# Altium schematic symbol library RC0805.SchLib: 789 symbols (part 1 of 11)
Pins are listed as number, name and electrical type; pins without a type are passive.

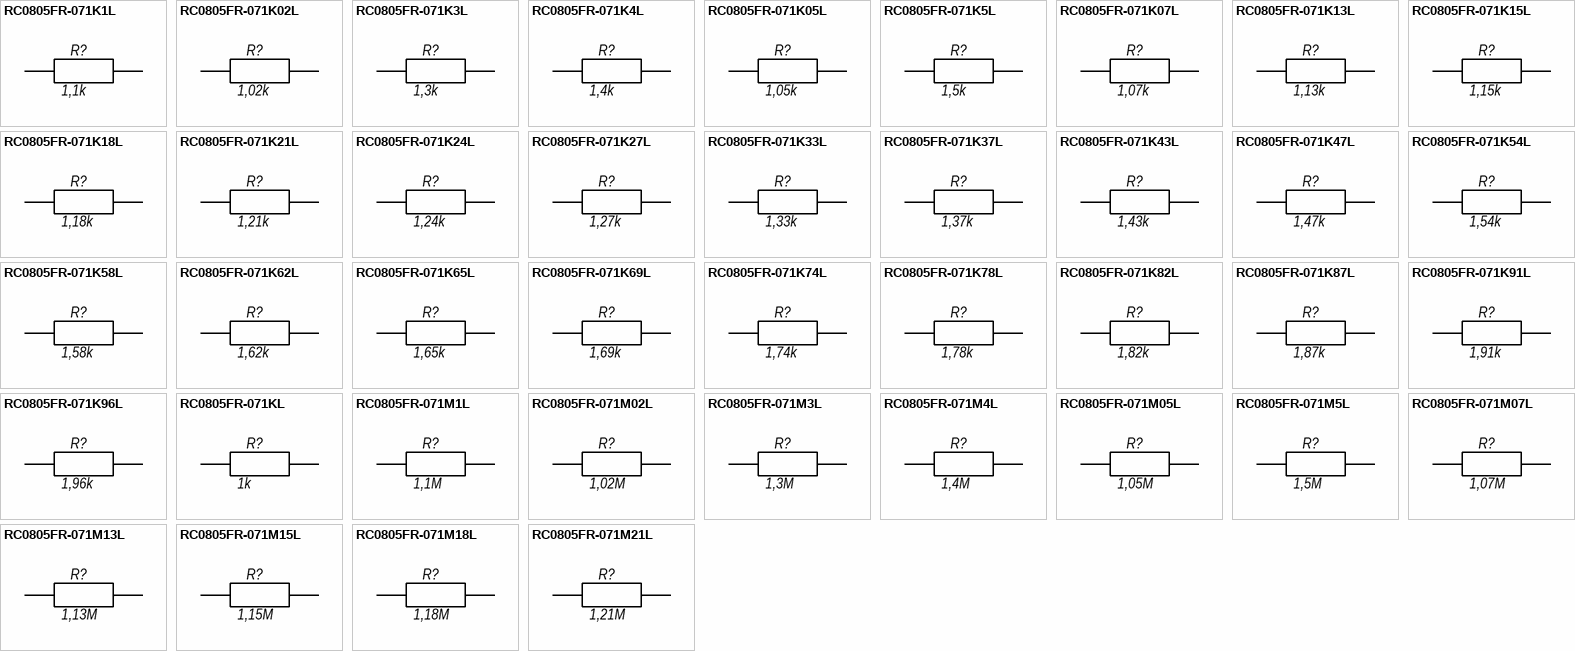
[diagram p0: symbols RC0805FR-071K1L to RC0805FR-071M21L]

## RC0805FR-071K1L
designator R?, comment 1,1k
RC0805FR-071K1L 0805 1.1 kOhm ±1% 1/8W 0805 SMD -55C...+155C; Manufacturer: Yageo; BOM2: 1,1 кОм ±1%, 1/8 Вт, SMD 0805, RC0805FR-071K1L; ValueBOM: RC0805FR-071K1L   Yageo                            (1,1 кОм ±1%, 1/8 Вт, SMD 0805, RC0805FR-071K1L); Value: 1,1k; Part Number: RC0805FR-071K1L; Package: 0805; BOM1: 1.1 kOhm ±1% 1/8W 0805 SMD
footprint RESC_0805_2012N (Chip Resistor, Body 2.0x1.3mm, IPC Medium Density)
footprint RESC_0805_2012M (Chip Resistor, Body 2.0x1.3mm, IPC Low Density)
footprint RESC_0805_2012L (Chip Resistor, Body 2.0x1.3mm, IPC High Density)
pins: 1, 2

## RC0805FR-071K02L
designator R?, comment 1,02k
RC0805FR-071K02L 0805 1.02 kOhm ±1% 1/8W 0805 SMD -55C...+155C; Manufacturer: Yageo; BOM2: 1,02 кОм ±1%, 1/8 Вт, SMD 0805, RC0805FR-071K02L; ValueBOM: RC0805FR-071K02L   Yageo                            (1,02 кОм ±1%, 1/8 Вт, SMD 0805, RC0805FR-071K02L); Value: 1,02k; Part Number: RC0805FR-071K02L; Package: 0805; BOM1: 1.02 kOhm ±1% 1/8W 0805 SMD
footprint RESC_0805_2012N (Chip Resistor, Body 2.0x1.3mm, IPC Medium Density)
footprint RESC_0805_2012M (Chip Resistor, Body 2.0x1.3mm, IPC Low Density)
footprint RESC_0805_2012L (Chip Resistor, Body 2.0x1.3mm, IPC High Density)
pins: 1, 2

## RC0805FR-071K3L
designator R?, comment 1,3k
RC0805FR-071K3L 0805 1.3 kOhm ±1% 1/8W 0805 SMD -55C...+155C; Manufacturer: Yageo; BOM2: 1,3 кОм ±1%, 1/8 Вт, SMD 0805, RC0805FR-071K3L; ValueBOM: RC0805FR-071K3L   Yageo                            (1,3 кОм ±1%, 1/8 Вт, SMD 0805, RC0805FR-071K3L); Value: 1,3k; Part Number: RC0805FR-071K3L; Package: 0805; BOM1: 1.3 kOhm ±1% 1/8W 0805 SMD
footprint RESC_0805_2012N (Chip Resistor, Body 2.0x1.3mm, IPC Medium Density)
footprint RESC_0805_2012M (Chip Resistor, Body 2.0x1.3mm, IPC Low Density)
footprint RESC_0805_2012L (Chip Resistor, Body 2.0x1.3mm, IPC High Density)
pins: 1, 2

## RC0805FR-071K4L
designator R?, comment 1,4k
RC0805FR-071K4L 0805 1.4 kOhm ±1% 1/8W 0805 SMD -55C...+155C; Manufacturer: Yageo; BOM2: 1,4 кОм ±1%, 1/8 Вт, SMD 0805, RC0805FR-071K4L; ValueBOM: RC0805FR-071K4L   Yageo                            (1,4 кОм ±1%, 1/8 Вт, SMD 0805, RC0805FR-071K4L); Value: 1,4k; Part Number: RC0805FR-071K4L; Package: 0805; BOM1: 1.4 kOhm ±1% 1/8W 0805 SMD
footprint RESC_0805_2012N (Chip Resistor, Body 2.0x1.3mm, IPC Medium Density)
footprint RESC_0805_2012M (Chip Resistor, Body 2.0x1.3mm, IPC Low Density)
footprint RESC_0805_2012L (Chip Resistor, Body 2.0x1.3mm, IPC High Density)
pins: 1, 2

## RC0805FR-071K05L
designator R?, comment 1,05k
RC0805FR-071K05L 0805 1.05 kOhm ±1% 1/8W 0805 SMD -55C...+155C; Manufacturer: Yageo; BOM2: 1,05 кОм ±1%, 1/8 Вт, SMD 0805, RC0805FR-071K05L; ValueBOM: RC0805FR-071K05L   Yageo                            (1,05 кОм ±1%, 1/8 Вт, SMD 0805, RC0805FR-071K05L); Value: 1,05k; Part Number: RC0805FR-071K05L; Package: 0805; BOM1: 1.05 kOhm ±1% 1/8W 0805 SMD
footprint RESC_0805_2012N (Chip Resistor, Body 2.0x1.3mm, IPC Medium Density)
footprint RESC_0805_2012M (Chip Resistor, Body 2.0x1.3mm, IPC Low Density)
footprint RESC_0805_2012L (Chip Resistor, Body 2.0x1.3mm, IPC High Density)
pins: 1, 2

## RC0805FR-071K5L
designator R?, comment 1,5k
RC0805FR-071K5L 0805 1.5 kOhm ±1% 1/8W 0805 SMD -55C...+155C; Manufacturer: Yageo; BOM2: 1,5 кОм ±1%, 1/8 Вт, SMD 0805, RC0805FR-071K5L; ValueBOM: RC0805FR-071K5L   Yageo                            (1,5 кОм ±1%, 1/8 Вт, SMD 0805, RC0805FR-071K5L); Value: 1,5k; Part Number: RC0805FR-071K5L; Package: 0805; BOM1: 1.5 kOhm ±1% 1/8W 0805 SMD
footprint RESC_0805_2012N (Chip Resistor, Body 2.0x1.3mm, IPC Medium Density)
footprint RESC_0805_2012M (Chip Resistor, Body 2.0x1.3mm, IPC Low Density)
footprint RESC_0805_2012L (Chip Resistor, Body 2.0x1.3mm, IPC High Density)
pins: 1, 2

## RC0805FR-071K07L
designator R?, comment 1,07k
RC0805FR-071K07L 0805 1.07 kOhm ±1% 1/8W 0805 SMD -55C...+155C; Manufacturer: Yageo; BOM2: 1,07 кОм ±1%, 1/8 Вт, SMD 0805, RC0805FR-071K07L; ValueBOM: RC0805FR-071K07L   Yageo                            (1,07 кОм ±1%, 1/8 Вт, SMD 0805, RC0805FR-071K07L); Value: 1,07k; Part Number: RC0805FR-071K07L; Package: 0805; BOM1: 1.07 kOhm ±1% 1/8W 0805 SMD
footprint RESC_0805_2012N (Chip Resistor, Body 2.0x1.3mm, IPC Medium Density)
footprint RESC_0805_2012M (Chip Resistor, Body 2.0x1.3mm, IPC Low Density)
footprint RESC_0805_2012L (Chip Resistor, Body 2.0x1.3mm, IPC High Density)
pins: 1, 2

## RC0805FR-071K13L
designator R?, comment 1,13k
RC0805FR-071K13L 0805 1.13 kOhm ±1% 1/8W 0805 SMD -55C...+155C; Manufacturer: Yageo; BOM2: 1,13 кОм ±1%, 1/8 Вт, SMD 0805, RC0805FR-071K13L; ValueBOM: RC0805FR-071K13L   Yageo                            (1,13 кОм ±1%, 1/8 Вт, SMD 0805, RC0805FR-071K13L); Value: 1,13k; Part Number: RC0805FR-071K13L; Package: 0805; BOM1: 1.13 kOhm ±1% 1/8W 0805 SMD
footprint RESC_0805_2012N (Chip Resistor, Body 2.0x1.3mm, IPC Medium Density)
footprint RESC_0805_2012M (Chip Resistor, Body 2.0x1.3mm, IPC Low Density)
footprint RESC_0805_2012L (Chip Resistor, Body 2.0x1.3mm, IPC High Density)
pins: 1, 2

## RC0805FR-071K15L
designator R?, comment 1,15k
RC0805FR-071K15L 0805 1.15 kOhm ±1% 1/8W 0805 SMD -55C...+155C; Manufacturer: Yageo; BOM2: 1,15 кОм ±1%, 1/8 Вт, SMD 0805, RC0805FR-071K15L; ValueBOM: RC0805FR-071K15L   Yageo                            (1,15 кОм ±1%, 1/8 Вт, SMD 0805, RC0805FR-071K15L); Value: 1,15k; Part Number: RC0805FR-071K15L; Package: 0805; BOM1: 1.15 kOhm ±1% 1/8W 0805 SMD
footprint RESC_0805_2012N (Chip Resistor, Body 2.0x1.3mm, IPC Medium Density)
footprint RESC_0805_2012M (Chip Resistor, Body 2.0x1.3mm, IPC Low Density)
footprint RESC_0805_2012L (Chip Resistor, Body 2.0x1.3mm, IPC High Density)
pins: 1, 2

## RC0805FR-071K18L
designator R?, comment 1,18k
RC0805FR-071K18L 0805 1.18 kOhm ±1% 1/8W 0805 SMD -55C...+155C; Manufacturer: Yageo; BOM2: 1,18 кОм ±1%, 1/8 Вт, SMD 0805, RC0805FR-071K18L; ValueBOM: RC0805FR-071K18L   Yageo                            (1,18 кОм ±1%, 1/8 Вт, SMD 0805, RC0805FR-071K18L); Value: 1,18k; Part Number: RC0805FR-071K18L; Package: 0805; BOM1: 1.18 kOhm ±1% 1/8W 0805 SMD
footprint RESC_0805_2012N (Chip Resistor, Body 2.0x1.3mm, IPC Medium Density)
footprint RESC_0805_2012M (Chip Resistor, Body 2.0x1.3mm, IPC Low Density)
footprint RESC_0805_2012L (Chip Resistor, Body 2.0x1.3mm, IPC High Density)
pins: 1, 2

## RC0805FR-071K21L
designator R?, comment 1,21k
RC0805FR-071K21L 0805 1.21 kOhm ±1% 1/8W 0805 SMD -55C...+155C; Manufacturer: Yageo; BOM2: 1,21 кОм ±1%, 1/8 Вт, SMD 0805, RC0805FR-071K21L; ValueBOM: RC0805FR-071K21L   Yageo                            (1,21 кОм ±1%, 1/8 Вт, SMD 0805, RC0805FR-071K21L); Value: 1,21k; Part Number: RC0805FR-071K21L; Package: 0805; BOM1: 1.21 kOhm ±1% 1/8W 0805 SMD
footprint RESC_0805_2012N (Chip Resistor, Body 2.0x1.3mm, IPC Medium Density)
footprint RESC_0805_2012M (Chip Resistor, Body 2.0x1.3mm, IPC Low Density)
footprint RESC_0805_2012L (Chip Resistor, Body 2.0x1.3mm, IPC High Density)
pins: 1, 2

## RC0805FR-071K24L
designator R?, comment 1,24k
RC0805FR-071K24L 0805 1.24 kOhm ±1% 1/8W 0805 SMD -55C...+155C; Manufacturer: Yageo; BOM2: 1,24 кОм ±1%, 1/8 Вт, SMD 0805, RC0805FR-071K24L; ValueBOM: RC0805FR-071K24L   Yageo                            (1,24 кОм ±1%, 1/8 Вт, SMD 0805, RC0805FR-071K24L); Value: 1,24k; Part Number: RC0805FR-071K24L; Package: 0805; BOM1: 1.24 kOhm ±1% 1/8W 0805 SMD
footprint RESC_0805_2012N (Chip Resistor, Body 2.0x1.3mm, IPC Medium Density)
footprint RESC_0805_2012M (Chip Resistor, Body 2.0x1.3mm, IPC Low Density)
footprint RESC_0805_2012L (Chip Resistor, Body 2.0x1.3mm, IPC High Density)
pins: 1, 2

## RC0805FR-071K27L
designator R?, comment 1,27k
RC0805FR-071K27L 0805 1.27 kOhm ±1% 1/8W 0805 SMD -55C...+155C; Manufacturer: Yageo; BOM2: 1,27 кОм ±1%, 1/8 Вт, SMD 0805, RC0805FR-071K27L; ValueBOM: RC0805FR-071K27L   Yageo                            (1,27 кОм ±1%, 1/8 Вт, SMD 0805, RC0805FR-071K27L); Value: 1,27k; Part Number: RC0805FR-071K27L; Package: 0805; BOM1: 1.27 kOhm ±1% 1/8W 0805 SMD
footprint RESC_0805_2012N (Chip Resistor, Body 2.0x1.3mm, IPC Medium Density)
footprint RESC_0805_2012M (Chip Resistor, Body 2.0x1.3mm, IPC Low Density)
footprint RESC_0805_2012L (Chip Resistor, Body 2.0x1.3mm, IPC High Density)
pins: 1, 2

## RC0805FR-071K33L
designator R?, comment 1,33k
RC0805FR-071K33L 0805 1.33 kOhm ±1% 1/8W 0805 SMD -55C...+155C; Manufacturer: Yageo; BOM2: 1,33 кОм ±1%, 1/8 Вт, SMD 0805, RC0805FR-071K33L; ValueBOM: RC0805FR-071K33L   Yageo                            (1,33 кОм ±1%, 1/8 Вт, SMD 0805, RC0805FR-071K33L); Value: 1,33k; Part Number: RC0805FR-071K33L; Package: 0805; BOM1: 1.33 kOhm ±1% 1/8W 0805 SMD
footprint RESC_0805_2012N (Chip Resistor, Body 2.0x1.3mm, IPC Medium Density)
footprint RESC_0805_2012M (Chip Resistor, Body 2.0x1.3mm, IPC Low Density)
footprint RESC_0805_2012L (Chip Resistor, Body 2.0x1.3mm, IPC High Density)
pins: 1, 2

## RC0805FR-071K37L
designator R?, comment 1,37k
RC0805FR-071K37L 0805 1.37 kOhm ±1% 1/8W 0805 SMD -55C...+155C; Manufacturer: Yageo; BOM2: 1,37 кОм ±1%, 1/8 Вт, SMD 0805, RC0805FR-071K37L; ValueBOM: RC0805FR-071K37L   Yageo                            (1,37 кОм ±1%, 1/8 Вт, SMD 0805, RC0805FR-071K37L); Value: 1,37k; Part Number: RC0805FR-071K37L; Package: 0805; BOM1: 1.37 kOhm ±1% 1/8W 0805 SMD
footprint RESC_0805_2012N (Chip Resistor, Body 2.0x1.3mm, IPC Medium Density)
footprint RESC_0805_2012M (Chip Resistor, Body 2.0x1.3mm, IPC Low Density)
footprint RESC_0805_2012L (Chip Resistor, Body 2.0x1.3mm, IPC High Density)
pins: 1, 2

## RC0805FR-071K43L
designator R?, comment 1,43k
RC0805FR-071K43L 0805 1.43 kOhm ±1% 1/8W 0805 SMD -55C...+155C; Manufacturer: Yageo; BOM2: 1,43 кОм ±1%, 1/8 Вт, SMD 0805, RC0805FR-071K43L; ValueBOM: RC0805FR-071K43L   Yageo                            (1,43 кОм ±1%, 1/8 Вт, SMD 0805, RC0805FR-071K43L); Value: 1,43k; Part Number: RC0805FR-071K43L; Package: 0805; BOM1: 1.43 kOhm ±1% 1/8W 0805 SMD
footprint RESC_0805_2012N (Chip Resistor, Body 2.0x1.3mm, IPC Medium Density)
footprint RESC_0805_2012M (Chip Resistor, Body 2.0x1.3mm, IPC Low Density)
footprint RESC_0805_2012L (Chip Resistor, Body 2.0x1.3mm, IPC High Density)
pins: 1, 2

## RC0805FR-071K47L
designator R?, comment 1,47k
RC0805FR-071K47L 0805 1.47 kOhm ±1% 1/8W 0805 SMD -55C...+155C; Manufacturer: Yageo; BOM2: 1,47 кОм ±1%, 1/8 Вт, SMD 0805, RC0805FR-071K47L; ValueBOM: RC0805FR-071K47L   Yageo                            (1,47 кОм ±1%, 1/8 Вт, SMD 0805, RC0805FR-071K47L); Value: 1,47k; Part Number: RC0805FR-071K47L; Package: 0805; BOM1: 1.47 kOhm ±1% 1/8W 0805 SMD
footprint RESC_0805_2012N (Chip Resistor, Body 2.0x1.3mm, IPC Medium Density)
footprint RESC_0805_2012M (Chip Resistor, Body 2.0x1.3mm, IPC Low Density)
footprint RESC_0805_2012L (Chip Resistor, Body 2.0x1.3mm, IPC High Density)
pins: 1, 2

## RC0805FR-071K54L
designator R?, comment 1,54k
RC0805FR-071K54L 0805 1.54 kOhm ±1% 1/8W 0805 SMD -55C...+155C; Manufacturer: Yageo; BOM2: 1,54 кОм ±1%, 1/8 Вт, SMD 0805, RC0805FR-071K54L; ValueBOM: RC0805FR-071K54L   Yageo                            (1,54 кОм ±1%, 1/8 Вт, SMD 0805, RC0805FR-071K54L); Value: 1,54k; Part Number: RC0805FR-071K54L; Package: 0805; BOM1: 1.54 kOhm ±1% 1/8W 0805 SMD
footprint RESC_0805_2012N (Chip Resistor, Body 2.0x1.3mm, IPC Medium Density)
footprint RESC_0805_2012M (Chip Resistor, Body 2.0x1.3mm, IPC Low Density)
footprint RESC_0805_2012L (Chip Resistor, Body 2.0x1.3mm, IPC High Density)
pins: 1, 2

## RC0805FR-071K58L
designator R?, comment 1,58k
RC0805FR-071K58L 0805 1.58 kOhm ±1% 1/8W 0805 SMD -55C...+155C; Manufacturer: Yageo; BOM2: 1,58 кОм ±1%, 1/8 Вт, SMD 0805, RC0805FR-071K58L; ValueBOM: RC0805FR-071K58L   Yageo                            (1,58 кОм ±1%, 1/8 Вт, SMD 0805, RC0805FR-071K58L); Value: 1,58k; Part Number: RC0805FR-071K58L; Package: 0805; BOM1: 1.58 kOhm ±1% 1/8W 0805 SMD
footprint RESC_0805_2012N (Chip Resistor, Body 2.0x1.3mm, IPC Medium Density)
footprint RESC_0805_2012M (Chip Resistor, Body 2.0x1.3mm, IPC Low Density)
footprint RESC_0805_2012L (Chip Resistor, Body 2.0x1.3mm, IPC High Density)
pins: 1, 2

## RC0805FR-071K62L
designator R?, comment 1,62k
RC0805FR-071K62L 0805 1.62 kOhm ±1% 1/8W 0805 SMD -55C...+155C; Manufacturer: Yageo; BOM2: 1,62 кОм ±1%, 1/8 Вт, SMD 0805, RC0805FR-071K62L; ValueBOM: RC0805FR-071K62L   Yageo                            (1,62 кОм ±1%, 1/8 Вт, SMD 0805, RC0805FR-071K62L); Value: 1,62k; Part Number: RC0805FR-071K62L; Package: 0805; BOM1: 1.62 kOhm ±1% 1/8W 0805 SMD
footprint RESC_0805_2012N (Chip Resistor, Body 2.0x1.3mm, IPC Medium Density)
footprint RESC_0805_2012M (Chip Resistor, Body 2.0x1.3mm, IPC Low Density)
footprint RESC_0805_2012L (Chip Resistor, Body 2.0x1.3mm, IPC High Density)
pins: 1, 2

## RC0805FR-071K65L
designator R?, comment 1,65k
RC0805FR-071K65L 0805 1.65 kOhm ±1% 1/8W 0805 SMD -55C...+155C; Manufacturer: Yageo; BOM2: 1,65 кОм ±1%, 1/8 Вт, SMD 0805, RC0805FR-071K65L; ValueBOM: RC0805FR-071K65L   Yageo                            (1,65 кОм ±1%, 1/8 Вт, SMD 0805, RC0805FR-071K65L); Value: 1,65k; Part Number: RC0805FR-071K65L; Package: 0805; BOM1: 1.65 kOhm ±1% 1/8W 0805 SMD
footprint RESC_0805_2012N (Chip Resistor, Body 2.0x1.3mm, IPC Medium Density)
footprint RESC_0805_2012M (Chip Resistor, Body 2.0x1.3mm, IPC Low Density)
footprint RESC_0805_2012L (Chip Resistor, Body 2.0x1.3mm, IPC High Density)
pins: 1, 2

## RC0805FR-071K69L
designator R?, comment 1,69k
RC0805FR-071K69L 0805 1.69 kOhm ±1% 1/8W 0805 SMD -55C...+155C; Manufacturer: Yageo; BOM2: 1,69 кОм ±1%, 1/8 Вт, SMD 0805, RC0805FR-071K69L; ValueBOM: RC0805FR-071K69L   Yageo                            (1,69 кОм ±1%, 1/8 Вт, SMD 0805, RC0805FR-071K69L); Value: 1,69k; Part Number: RC0805FR-071K69L; Package: 0805; BOM1: 1.69 kOhm ±1% 1/8W 0805 SMD
footprint RESC_0805_2012N (Chip Resistor, Body 2.0x1.3mm, IPC Medium Density)
footprint RESC_0805_2012M (Chip Resistor, Body 2.0x1.3mm, IPC Low Density)
footprint RESC_0805_2012L (Chip Resistor, Body 2.0x1.3mm, IPC High Density)
pins: 1, 2

## RC0805FR-071K74L
designator R?, comment 1,74k
RC0805FR-071K74L 0805 1.74 kOhm ±1% 1/8W 0805 SMD -55C...+155C; Manufacturer: Yageo; BOM2: 1,74 кОм ±1%, 1/8 Вт, SMD 0805, RC0805FR-071K74L; ValueBOM: RC0805FR-071K74L   Yageo                            (1,74 кОм ±1%, 1/8 Вт, SMD 0805, RC0805FR-071K74L); Value: 1,74k; Part Number: RC0805FR-071K74L; Package: 0805; BOM1: 1.74 kOhm ±1% 1/8W 0805 SMD
footprint RESC_0805_2012N (Chip Resistor, Body 2.0x1.3mm, IPC Medium Density)
footprint RESC_0805_2012M (Chip Resistor, Body 2.0x1.3mm, IPC Low Density)
footprint RESC_0805_2012L (Chip Resistor, Body 2.0x1.3mm, IPC High Density)
pins: 1, 2

## RC0805FR-071K78L
designator R?, comment 1,78k
RC0805FR-071K78L 0805 1.78 kOhm ±1% 1/8W 0805 SMD -55C...+155C; Manufacturer: Yageo; BOM2: 1,78 кОм ±1%, 1/8 Вт, SMD 0805, RC0805FR-071K78L; ValueBOM: RC0805FR-071K78L   Yageo                            (1,78 кОм ±1%, 1/8 Вт, SMD 0805, RC0805FR-071K78L); Value: 1,78k; Part Number: RC0805FR-071K78L; Package: 0805; BOM1: 1.78 kOhm ±1% 1/8W 0805 SMD
footprint RESC_0805_2012N (Chip Resistor, Body 2.0x1.3mm, IPC Medium Density)
footprint RESC_0805_2012M (Chip Resistor, Body 2.0x1.3mm, IPC Low Density)
footprint RESC_0805_2012L (Chip Resistor, Body 2.0x1.3mm, IPC High Density)
pins: 1, 2

## RC0805FR-071K82L
designator R?, comment 1,82k
RC0805FR-071K82L 0805 1.82 kOhm ±1% 1/8W 0805 SMD -55C...+155C; Manufacturer: Yageo; BOM2: 1,82 кОм ±1%, 1/8 Вт, SMD 0805, RC0805FR-071K82L; ValueBOM: RC0805FR-071K82L   Yageo                            (1,82 кОм ±1%, 1/8 Вт, SMD 0805, RC0805FR-071K82L); Value: 1,82k; Part Number: RC0805FR-071K82L; Package: 0805; BOM1: 1.82 kOhm ±1% 1/8W 0805 SMD
footprint RESC_0805_2012N (Chip Resistor, Body 2.0x1.3mm, IPC Medium Density)
footprint RESC_0805_2012M (Chip Resistor, Body 2.0x1.3mm, IPC Low Density)
footprint RESC_0805_2012L (Chip Resistor, Body 2.0x1.3mm, IPC High Density)
pins: 1, 2

## RC0805FR-071K87L
designator R?, comment 1,87k
RC0805FR-071K87L 0805 1.87 kOhm ±1% 1/8W 0805 SMD -55C...+155C; Manufacturer: Yageo; BOM2: 1,87 кОм ±1%, 1/8 Вт, SMD 0805, RC0805FR-071K87L; ValueBOM: RC0805FR-071K87L   Yageo                            (1,87 кОм ±1%, 1/8 Вт, SMD 0805, RC0805FR-071K87L); Value: 1,87k; Part Number: RC0805FR-071K87L; Package: 0805; BOM1: 1.87 kOhm ±1% 1/8W 0805 SMD
footprint RESC_0805_2012N (Chip Resistor, Body 2.0x1.3mm, IPC Medium Density)
footprint RESC_0805_2012M (Chip Resistor, Body 2.0x1.3mm, IPC Low Density)
footprint RESC_0805_2012L (Chip Resistor, Body 2.0x1.3mm, IPC High Density)
pins: 1, 2

## RC0805FR-071K91L
designator R?, comment 1,91k
RC0805FR-071K91L 0805 1.91 kOhm ±1% 1/8W 0805 SMD -55C...+155C; Manufacturer: Yageo; BOM2: 1,91 кОм ±1%, 1/8 Вт, SMD 0805, RC0805FR-071K91L; ValueBOM: RC0805FR-071K91L   Yageo                            (1,91 кОм ±1%, 1/8 Вт, SMD 0805, RC0805FR-071K91L); Value: 1,91k; Part Number: RC0805FR-071K91L; Package: 0805; BOM1: 1.91 kOhm ±1% 1/8W 0805 SMD
footprint RESC_0805_2012N (Chip Resistor, Body 2.0x1.3mm, IPC Medium Density)
footprint RESC_0805_2012M (Chip Resistor, Body 2.0x1.3mm, IPC Low Density)
footprint RESC_0805_2012L (Chip Resistor, Body 2.0x1.3mm, IPC High Density)
pins: 1, 2

## RC0805FR-071K96L
designator R?, comment 1,96k
RC0805FR-071K96L 0805 1.96 kOhm ±1% 1/8W 0805 SMD -55C...+155C; Manufacturer: Yageo; BOM2: 1,96 кОм ±1%, 1/8 Вт, SMD 0805, RC0805FR-071K96L; ValueBOM: RC0805FR-071K96L   Yageo                            (1,96 кОм ±1%, 1/8 Вт, SMD 0805, RC0805FR-071K96L); Value: 1,96k; Part Number: RC0805FR-071K96L; Package: 0805; BOM1: 1.96 kOhm ±1% 1/8W 0805 SMD
footprint RESC_0805_2012N (Chip Resistor, Body 2.0x1.3mm, IPC Medium Density)
footprint RESC_0805_2012M (Chip Resistor, Body 2.0x1.3mm, IPC Low Density)
footprint RESC_0805_2012L (Chip Resistor, Body 2.0x1.3mm, IPC High Density)
pins: 1, 2

## RC0805FR-071KL
designator R?, comment 1k
RC0805FR-071KL 0805 1 kOhm ±1% 1/8W 0805 SMD -55C...+155C; Manufacturer: Yageo; BOM2: 1 кОм ±1%, 1/8 Вт, SMD 0805, RC0805FR-071KL; ValueBOM: RC0805FR-071KL   Yageo                            (1 кОм ±1%, 1/8 Вт, SMD 0805, RC0805FR-071KL); Value: 1k; Part Number: RC0805FR-071KL; Package: 0805; BOM1: 1 kOhm ±1% 1/8W 0805 SMD
footprint RESC_0805_2012N (Chip Resistor, Body 2.0x1.3mm, IPC Medium Density)
footprint RESC_0805_2012M (Chip Resistor, Body 2.0x1.3mm, IPC Low Density)
footprint RESC_0805_2012L (Chip Resistor, Body 2.0x1.3mm, IPC High Density)
pins: 1, 2

## RC0805FR-071M1L
designator R?, comment 1,1M
RC0805FR-071M1L 0805 1.1 MOhm ±1% 1/8W 0805 SMD -55C...+155C; Manufacturer: Yageo; BOM2: 1,1 МОм ±1%, 1/8 Вт, SMD 0805, RC0805FR-071M1L; ValueBOM: RC0805FR-071M1L   Yageo                            (1,1 МОм ±1%, 1/8 Вт, SMD 0805, RC0805FR-071M1L); Value: 1,1M; Part Number: RC0805FR-071M1L; Package: 0805; BOM1: 1.1 MOhm ±1% 1/8W 0805 SMD
footprint RESC_0805_2012N (Chip Resistor, Body 2.0x1.3mm, IPC Medium Density)
footprint RESC_0805_2012M (Chip Resistor, Body 2.0x1.3mm, IPC Low Density)
footprint RESC_0805_2012L (Chip Resistor, Body 2.0x1.3mm, IPC High Density)
pins: 1, 2

## RC0805FR-071M02L
designator R?, comment 1,02M
RC0805FR-071M02L 0805 1.02 MOhm ±1% 1/8W 0805 SMD -55C...+155C; Manufacturer: Yageo; BOM2: 1,02 МОм ±1%, 1/8 Вт, SMD 0805, RC0805FR-071M02L; ValueBOM: RC0805FR-071M02L   Yageo                            (1,02 МОм ±1%, 1/8 Вт, SMD 0805, RC0805FR-071M02L); Value: 1,02M; Part Number: RC0805FR-071M02L; Package: 0805; BOM1: 1.02 MOhm ±1% 1/8W 0805 SMD
footprint RESC_0805_2012N (Chip Resistor, Body 2.0x1.3mm, IPC Medium Density)
footprint RESC_0805_2012M (Chip Resistor, Body 2.0x1.3mm, IPC Low Density)
footprint RESC_0805_2012L (Chip Resistor, Body 2.0x1.3mm, IPC High Density)
pins: 1, 2

## RC0805FR-071M3L
designator R?, comment 1,3M
RC0805FR-071M3L 0805 1.3 MOhm ±1% 1/8W 0805 SMD -55C...+155C; Manufacturer: Yageo; BOM2: 1,3 МОм ±1%, 1/8 Вт, SMD 0805, RC0805FR-071M3L; ValueBOM: RC0805FR-071M3L   Yageo                            (1,3 МОм ±1%, 1/8 Вт, SMD 0805, RC0805FR-071M3L); Value: 1,3M; Part Number: RC0805FR-071M3L; Package: 0805; BOM1: 1.3 MOhm ±1% 1/8W 0805 SMD
footprint RESC_0805_2012N (Chip Resistor, Body 2.0x1.3mm, IPC Medium Density)
footprint RESC_0805_2012M (Chip Resistor, Body 2.0x1.3mm, IPC Low Density)
footprint RESC_0805_2012L (Chip Resistor, Body 2.0x1.3mm, IPC High Density)
pins: 1, 2

## RC0805FR-071M4L
designator R?, comment 1,4M
RC0805FR-071M4L 0805 1.4 MOhm ±1% 1/8W 0805 SMD -55C...+155C; Manufacturer: Yageo; BOM2: 1,4 МОм ±1%, 1/8 Вт, SMD 0805, RC0805FR-071M4L; ValueBOM: RC0805FR-071M4L   Yageo                            (1,4 МОм ±1%, 1/8 Вт, SMD 0805, RC0805FR-071M4L); Value: 1,4M; Part Number: RC0805FR-071M4L; Package: 0805; BOM1: 1.4 MOhm ±1% 1/8W 0805 SMD
footprint RESC_0805_2012N (Chip Resistor, Body 2.0x1.3mm, IPC Medium Density)
footprint RESC_0805_2012M (Chip Resistor, Body 2.0x1.3mm, IPC Low Density)
footprint RESC_0805_2012L (Chip Resistor, Body 2.0x1.3mm, IPC High Density)
pins: 1, 2

## RC0805FR-071M05L
designator R?, comment 1,05M
RC0805FR-071M05L 0805 1.05 MOhm ±1% 1/8W 0805 SMD -55C...+155C; Manufacturer: Yageo; BOM2: 1,05 МОм ±1%, 1/8 Вт, SMD 0805, RC0805FR-071M05L; ValueBOM: RC0805FR-071M05L   Yageo                            (1,05 МОм ±1%, 1/8 Вт, SMD 0805, RC0805FR-071M05L); Value: 1,05M; Part Number: RC0805FR-071M05L; Package: 0805; BOM1: 1.05 MOhm ±1% 1/8W 0805 SMD
footprint RESC_0805_2012N (Chip Resistor, Body 2.0x1.3mm, IPC Medium Density)
footprint RESC_0805_2012M (Chip Resistor, Body 2.0x1.3mm, IPC Low Density)
footprint RESC_0805_2012L (Chip Resistor, Body 2.0x1.3mm, IPC High Density)
pins: 1, 2

## RC0805FR-071M5L
designator R?, comment 1,5M
RC0805FR-071M5L 0805 1.5 MOhm ±1% 1/8W 0805 SMD -55C...+155C; Manufacturer: Yageo; BOM2: 1,5 МОм ±1%, 1/8 Вт, SMD 0805, RC0805FR-071M5L; ValueBOM: RC0805FR-071M5L   Yageo                            (1,5 МОм ±1%, 1/8 Вт, SMD 0805, RC0805FR-071M5L); Value: 1,5M; Part Number: RC0805FR-071M5L; Package: 0805; BOM1: 1.5 MOhm ±1% 1/8W 0805 SMD
footprint RESC_0805_2012N (Chip Resistor, Body 2.0x1.3mm, IPC Medium Density)
footprint RESC_0805_2012M (Chip Resistor, Body 2.0x1.3mm, IPC Low Density)
footprint RESC_0805_2012L (Chip Resistor, Body 2.0x1.3mm, IPC High Density)
pins: 1, 2

## RC0805FR-071M07L
designator R?, comment 1,07M
RC0805FR-071M07L 0805 1.07 MOhm ±1% 1/8W 0805 SMD -55C...+155C; Manufacturer: Yageo; BOM2: 1,07 МОм ±1%, 1/8 Вт, SMD 0805, RC0805FR-071M07L; ValueBOM: RC0805FR-071M07L   Yageo                            (1,07 МОм ±1%, 1/8 Вт, SMD 0805, RC0805FR-071M07L); Value: 1,07M; Part Number: RC0805FR-071M07L; Package: 0805; BOM1: 1.07 MOhm ±1% 1/8W 0805 SMD
footprint RESC_0805_2012N (Chip Resistor, Body 2.0x1.3mm, IPC Medium Density)
footprint RESC_0805_2012M (Chip Resistor, Body 2.0x1.3mm, IPC Low Density)
footprint RESC_0805_2012L (Chip Resistor, Body 2.0x1.3mm, IPC High Density)
pins: 1, 2

## RC0805FR-071M13L
designator R?, comment 1,13M
RC0805FR-071M13L 0805 1.13 MOhm ±1% 1/8W 0805 SMD -55C...+155C; Manufacturer: Yageo; BOM2: 1,13 МОм ±1%, 1/8 Вт, SMD 0805, RC0805FR-071M13L; ValueBOM: RC0805FR-071M13L   Yageo                            (1,13 МОм ±1%, 1/8 Вт, SMD 0805, RC0805FR-071M13L); Value: 1,13M; Part Number: RC0805FR-071M13L; Package: 0805; BOM1: 1.13 MOhm ±1% 1/8W 0805 SMD
footprint RESC_0805_2012N (Chip Resistor, Body 2.0x1.3mm, IPC Medium Density)
footprint RESC_0805_2012M (Chip Resistor, Body 2.0x1.3mm, IPC Low Density)
footprint RESC_0805_2012L (Chip Resistor, Body 2.0x1.3mm, IPC High Density)
pins: 1, 2

## RC0805FR-071M15L
designator R?, comment 1,15M
RC0805FR-071M15L 0805 1.15 MOhm ±1% 1/8W 0805 SMD -55C...+155C; Manufacturer: Yageo; BOM2: 1,15 МОм ±1%, 1/8 Вт, SMD 0805, RC0805FR-071M15L; ValueBOM: RC0805FR-071M15L   Yageo                            (1,15 МОм ±1%, 1/8 Вт, SMD 0805, RC0805FR-071M15L); Value: 1,15M; Part Number: RC0805FR-071M15L; Package: 0805; BOM1: 1.15 MOhm ±1% 1/8W 0805 SMD
footprint RESC_0805_2012N (Chip Resistor, Body 2.0x1.3mm, IPC Medium Density)
footprint RESC_0805_2012M (Chip Resistor, Body 2.0x1.3mm, IPC Low Density)
footprint RESC_0805_2012L (Chip Resistor, Body 2.0x1.3mm, IPC High Density)
pins: 1, 2

## RC0805FR-071M18L
designator R?, comment 1,18M
RC0805FR-071M18L 0805 1.18 MOhm ±1% 1/8W 0805 SMD -55C...+155C; Manufacturer: Yageo; BOM2: 1,18 МОм ±1%, 1/8 Вт, SMD 0805, RC0805FR-071M18L; ValueBOM: RC0805FR-071M18L   Yageo                            (1,18 МОм ±1%, 1/8 Вт, SMD 0805, RC0805FR-071M18L); Value: 1,18M; Part Number: RC0805FR-071M18L; Package: 0805; BOM1: 1.18 MOhm ±1% 1/8W 0805 SMD
footprint RESC_0805_2012N (Chip Resistor, Body 2.0x1.3mm, IPC Medium Density)
footprint RESC_0805_2012M (Chip Resistor, Body 2.0x1.3mm, IPC Low Density)
footprint RESC_0805_2012L (Chip Resistor, Body 2.0x1.3mm, IPC High Density)
pins: 1, 2

## RC0805FR-071M21L
designator R?, comment 1,21M
RC0805FR-071M21L 0805 1.21 MOhm ±1% 1/8W 0805 SMD -55C...+155C; Manufacturer: Yageo; BOM2: 1,21 МОм ±1%, 1/8 Вт, SMD 0805, RC0805FR-071M21L; ValueBOM: RC0805FR-071M21L   Yageo                            (1,21 МОм ±1%, 1/8 Вт, SMD 0805, RC0805FR-071M21L); Value: 1,21M; Part Number: RC0805FR-071M21L; Package: 0805; BOM1: 1.21 MOhm ±1% 1/8W 0805 SMD
footprint RESC_0805_2012N (Chip Resistor, Body 2.0x1.3mm, IPC Medium Density)
footprint RESC_0805_2012M (Chip Resistor, Body 2.0x1.3mm, IPC Low Density)
footprint RESC_0805_2012L (Chip Resistor, Body 2.0x1.3mm, IPC High Density)
pins: 1, 2

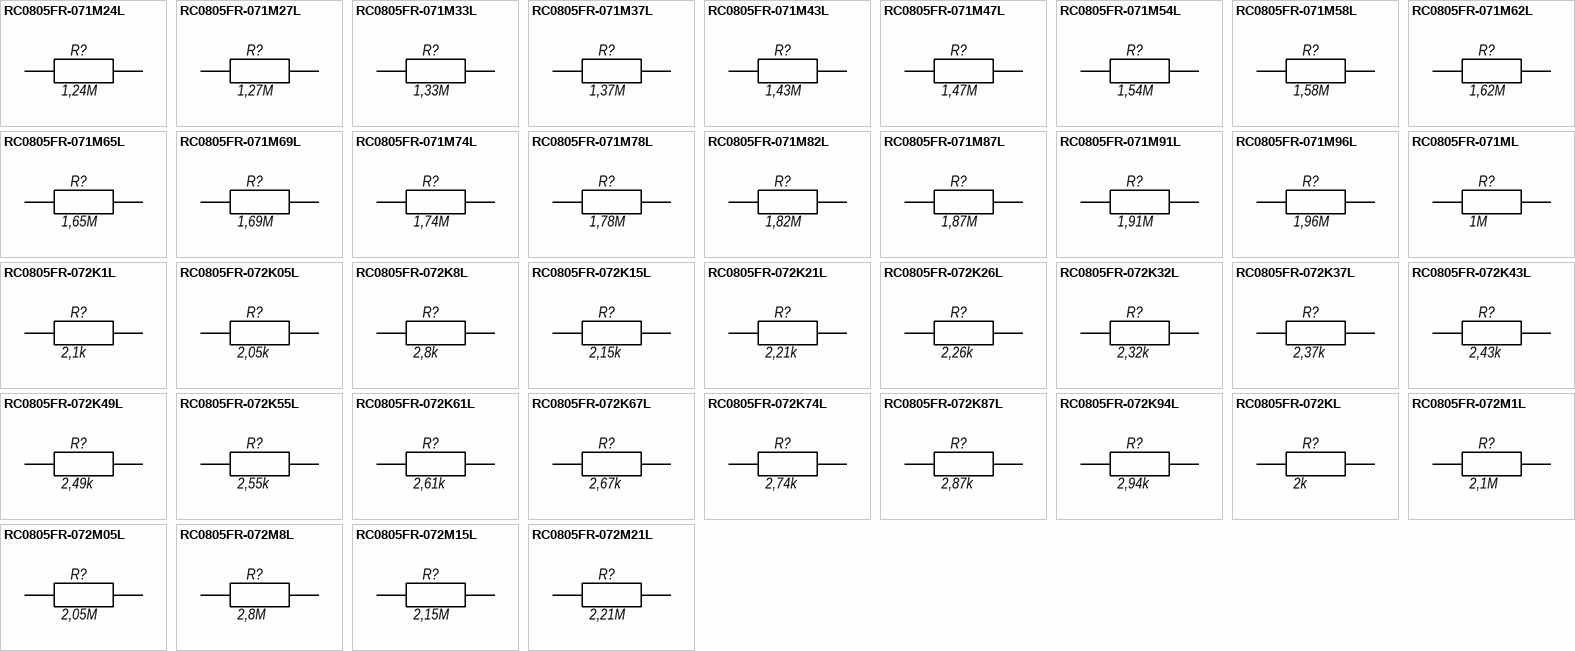
[diagram p1: symbols RC0805FR-071M24L to RC0805FR-072M21L]

## RC0805FR-071M24L
designator R?, comment 1,24M
RC0805FR-071M24L 0805 1.24 MOhm ±1% 1/8W 0805 SMD -55C...+155C; Manufacturer: Yageo; BOM2: 1,24 МОм ±1%, 1/8 Вт, SMD 0805, RC0805FR-071M24L; ValueBOM: RC0805FR-071M24L   Yageo                            (1,24 МОм ±1%, 1/8 Вт, SMD 0805, RC0805FR-071M24L); Value: 1,24M; Part Number: RC0805FR-071M24L; Package: 0805; BOM1: 1.24 MOhm ±1% 1/8W 0805 SMD
footprint RESC_0805_2012N (Chip Resistor, Body 2.0x1.3mm, IPC Medium Density)
footprint RESC_0805_2012M (Chip Resistor, Body 2.0x1.3mm, IPC Low Density)
footprint RESC_0805_2012L (Chip Resistor, Body 2.0x1.3mm, IPC High Density)
pins: 1, 2

## RC0805FR-071M27L
designator R?, comment 1,27M
RC0805FR-071M27L 0805 1.27 MOhm ±1% 1/8W 0805 SMD -55C...+155C; Manufacturer: Yageo; BOM2: 1,27 МОм ±1%, 1/8 Вт, SMD 0805, RC0805FR-071M27L; ValueBOM: RC0805FR-071M27L   Yageo                            (1,27 МОм ±1%, 1/8 Вт, SMD 0805, RC0805FR-071M27L); Value: 1,27M; Part Number: RC0805FR-071M27L; Package: 0805; BOM1: 1.27 MOhm ±1% 1/8W 0805 SMD
footprint RESC_0805_2012N (Chip Resistor, Body 2.0x1.3mm, IPC Medium Density)
footprint RESC_0805_2012M (Chip Resistor, Body 2.0x1.3mm, IPC Low Density)
footprint RESC_0805_2012L (Chip Resistor, Body 2.0x1.3mm, IPC High Density)
pins: 1, 2

## RC0805FR-071M33L
designator R?, comment 1,33M
RC0805FR-071M33L 0805 1.33 MOhm ±1% 1/8W 0805 SMD -55C...+155C; Manufacturer: Yageo; BOM2: 1,33 МОм ±1%, 1/8 Вт, SMD 0805, RC0805FR-071M33L; ValueBOM: RC0805FR-071M33L   Yageo                            (1,33 МОм ±1%, 1/8 Вт, SMD 0805, RC0805FR-071M33L); Value: 1,33M; Part Number: RC0805FR-071M33L; Package: 0805; BOM1: 1.33 MOhm ±1% 1/8W 0805 SMD
footprint RESC_0805_2012N (Chip Resistor, Body 2.0x1.3mm, IPC Medium Density)
footprint RESC_0805_2012M (Chip Resistor, Body 2.0x1.3mm, IPC Low Density)
footprint RESC_0805_2012L (Chip Resistor, Body 2.0x1.3mm, IPC High Density)
pins: 1, 2

## RC0805FR-071M37L
designator R?, comment 1,37M
RC0805FR-071M37L 0805 1.37 MOhm ±1% 1/8W 0805 SMD -55C...+155C; Manufacturer: Yageo; BOM2: 1,37 МОм ±1%, 1/8 Вт, SMD 0805, RC0805FR-071M37L; ValueBOM: RC0805FR-071M37L   Yageo                            (1,37 МОм ±1%, 1/8 Вт, SMD 0805, RC0805FR-071M37L); Value: 1,37M; Part Number: RC0805FR-071M37L; Package: 0805; BOM1: 1.37 MOhm ±1% 1/8W 0805 SMD
footprint RESC_0805_2012N (Chip Resistor, Body 2.0x1.3mm, IPC Medium Density)
footprint RESC_0805_2012M (Chip Resistor, Body 2.0x1.3mm, IPC Low Density)
footprint RESC_0805_2012L (Chip Resistor, Body 2.0x1.3mm, IPC High Density)
pins: 1, 2

## RC0805FR-071M43L
designator R?, comment 1,43M
RC0805FR-071M43L 0805 1.43 MOhm ±1% 1/8W 0805 SMD -55C...+155C; Manufacturer: Yageo; BOM2: 1,43 МОм ±1%, 1/8 Вт, SMD 0805, RC0805FR-071M43L; ValueBOM: RC0805FR-071M43L   Yageo                            (1,43 МОм ±1%, 1/8 Вт, SMD 0805, RC0805FR-071M43L); Value: 1,43M; Part Number: RC0805FR-071M43L; Package: 0805; BOM1: 1.43 MOhm ±1% 1/8W 0805 SMD
footprint RESC_0805_2012N (Chip Resistor, Body 2.0x1.3mm, IPC Medium Density)
footprint RESC_0805_2012M (Chip Resistor, Body 2.0x1.3mm, IPC Low Density)
footprint RESC_0805_2012L (Chip Resistor, Body 2.0x1.3mm, IPC High Density)
pins: 1, 2

## RC0805FR-071M47L
designator R?, comment 1,47M
RC0805FR-071M47L 0805 1.47 MOhm ±1% 1/8W 0805 SMD -55C...+155C; Manufacturer: Yageo; BOM2: 1,47 МОм ±1%, 1/8 Вт, SMD 0805, RC0805FR-071M47L; ValueBOM: RC0805FR-071M47L   Yageo                            (1,47 МОм ±1%, 1/8 Вт, SMD 0805, RC0805FR-071M47L); Value: 1,47M; Part Number: RC0805FR-071M47L; Package: 0805; BOM1: 1.47 MOhm ±1% 1/8W 0805 SMD
footprint RESC_0805_2012N (Chip Resistor, Body 2.0x1.3mm, IPC Medium Density)
footprint RESC_0805_2012M (Chip Resistor, Body 2.0x1.3mm, IPC Low Density)
footprint RESC_0805_2012L (Chip Resistor, Body 2.0x1.3mm, IPC High Density)
pins: 1, 2

## RC0805FR-071M54L
designator R?, comment 1,54M
RC0805FR-071M54L 0805 1.54 MOhm ±1% 1/8W 0805 SMD -55C...+155C; Manufacturer: Yageo; BOM2: 1,54 МОм ±1%, 1/8 Вт, SMD 0805, RC0805FR-071M54L; ValueBOM: RC0805FR-071M54L   Yageo                            (1,54 МОм ±1%, 1/8 Вт, SMD 0805, RC0805FR-071M54L); Value: 1,54M; Part Number: RC0805FR-071M54L; Package: 0805; BOM1: 1.54 MOhm ±1% 1/8W 0805 SMD
footprint RESC_0805_2012N (Chip Resistor, Body 2.0x1.3mm, IPC Medium Density)
footprint RESC_0805_2012M (Chip Resistor, Body 2.0x1.3mm, IPC Low Density)
footprint RESC_0805_2012L (Chip Resistor, Body 2.0x1.3mm, IPC High Density)
pins: 1, 2

## RC0805FR-071M58L
designator R?, comment 1,58M
RC0805FR-071M58L 0805 1.58 MOhm ±1% 1/8W 0805 SMD -55C...+155C; Manufacturer: Yageo; BOM2: 1,58 МОм ±1%, 1/8 Вт, SMD 0805, RC0805FR-071M58L; ValueBOM: RC0805FR-071M58L   Yageo                            (1,58 МОм ±1%, 1/8 Вт, SMD 0805, RC0805FR-071M58L); Value: 1,58M; Part Number: RC0805FR-071M58L; Package: 0805; BOM1: 1.58 MOhm ±1% 1/8W 0805 SMD
footprint RESC_0805_2012N (Chip Resistor, Body 2.0x1.3mm, IPC Medium Density)
footprint RESC_0805_2012M (Chip Resistor, Body 2.0x1.3mm, IPC Low Density)
footprint RESC_0805_2012L (Chip Resistor, Body 2.0x1.3mm, IPC High Density)
pins: 1, 2

## RC0805FR-071M62L
designator R?, comment 1,62M
RC0805FR-071M62L 0805 1.62 MOhm ±1% 1/8W 0805 SMD -55C...+155C; Manufacturer: Yageo; BOM2: 1,62 МОм ±1%, 1/8 Вт, SMD 0805, RC0805FR-071M62L; ValueBOM: RC0805FR-071M62L   Yageo                            (1,62 МОм ±1%, 1/8 Вт, SMD 0805, RC0805FR-071M62L); Value: 1,62M; Part Number: RC0805FR-071M62L; Package: 0805; BOM1: 1.62 MOhm ±1% 1/8W 0805 SMD
footprint RESC_0805_2012N (Chip Resistor, Body 2.0x1.3mm, IPC Medium Density)
footprint RESC_0805_2012M (Chip Resistor, Body 2.0x1.3mm, IPC Low Density)
footprint RESC_0805_2012L (Chip Resistor, Body 2.0x1.3mm, IPC High Density)
pins: 1, 2

## RC0805FR-071M65L
designator R?, comment 1,65M
RC0805FR-071M65L 0805 1.65 MOhm ±1% 1/8W 0805 SMD -55C...+155C; Manufacturer: Yageo; BOM2: 1,65 МОм ±1%, 1/8 Вт, SMD 0805, RC0805FR-071M65L; ValueBOM: RC0805FR-071M65L   Yageo                            (1,65 МОм ±1%, 1/8 Вт, SMD 0805, RC0805FR-071M65L); Value: 1,65M; Part Number: RC0805FR-071M65L; Package: 0805; BOM1: 1.65 MOhm ±1% 1/8W 0805 SMD
footprint RESC_0805_2012N (Chip Resistor, Body 2.0x1.3mm, IPC Medium Density)
footprint RESC_0805_2012M (Chip Resistor, Body 2.0x1.3mm, IPC Low Density)
footprint RESC_0805_2012L (Chip Resistor, Body 2.0x1.3mm, IPC High Density)
pins: 1, 2

## RC0805FR-071M69L
designator R?, comment 1,69M
RC0805FR-071M69L 0805 1.69 MOhm ±1% 1/8W 0805 SMD -55C...+155C; Manufacturer: Yageo; BOM2: 1,69 МОм ±1%, 1/8 Вт, SMD 0805, RC0805FR-071M69L; ValueBOM: RC0805FR-071M69L   Yageo                            (1,69 МОм ±1%, 1/8 Вт, SMD 0805, RC0805FR-071M69L); Value: 1,69M; Part Number: RC0805FR-071M69L; Package: 0805; BOM1: 1.69 MOhm ±1% 1/8W 0805 SMD
footprint RESC_0805_2012N (Chip Resistor, Body 2.0x1.3mm, IPC Medium Density)
footprint RESC_0805_2012M (Chip Resistor, Body 2.0x1.3mm, IPC Low Density)
footprint RESC_0805_2012L (Chip Resistor, Body 2.0x1.3mm, IPC High Density)
pins: 1, 2

## RC0805FR-071M74L
designator R?, comment 1,74M
RC0805FR-071M74L 0805 1.74 MOhm ±1% 1/8W 0805 SMD -55C...+155C; Manufacturer: Yageo; BOM2: 1,74 МОм ±1%, 1/8 Вт, SMD 0805, RC0805FR-071M74L; ValueBOM: RC0805FR-071M74L   Yageo                            (1,74 МОм ±1%, 1/8 Вт, SMD 0805, RC0805FR-071M74L); Value: 1,74M; Part Number: RC0805FR-071M74L; Package: 0805; BOM1: 1.74 MOhm ±1% 1/8W 0805 SMD
footprint RESC_0805_2012N (Chip Resistor, Body 2.0x1.3mm, IPC Medium Density)
footprint RESC_0805_2012M (Chip Resistor, Body 2.0x1.3mm, IPC Low Density)
footprint RESC_0805_2012L (Chip Resistor, Body 2.0x1.3mm, IPC High Density)
pins: 1, 2

## RC0805FR-071M78L
designator R?, comment 1,78M
RC0805FR-071M78L 0805 1.78 MOhm ±1% 1/8W 0805 SMD -55C...+155C; Manufacturer: Yageo; BOM2: 1,78 МОм ±1%, 1/8 Вт, SMD 0805, RC0805FR-071M78L; ValueBOM: RC0805FR-071M78L   Yageo                            (1,78 МОм ±1%, 1/8 Вт, SMD 0805, RC0805FR-071M78L); Value: 1,78M; Part Number: RC0805FR-071M78L; Package: 0805; BOM1: 1.78 MOhm ±1% 1/8W 0805 SMD
footprint RESC_0805_2012N (Chip Resistor, Body 2.0x1.3mm, IPC Medium Density)
footprint RESC_0805_2012M (Chip Resistor, Body 2.0x1.3mm, IPC Low Density)
footprint RESC_0805_2012L (Chip Resistor, Body 2.0x1.3mm, IPC High Density)
pins: 1, 2

## RC0805FR-071M82L
designator R?, comment 1,82M
RC0805FR-071M82L 0805 1.82 MOhm ±1% 1/8W 0805 SMD -55C...+155C; Manufacturer: Yageo; BOM2: 1,82 МОм ±1%, 1/8 Вт, SMD 0805, RC0805FR-071M82L; ValueBOM: RC0805FR-071M82L   Yageo                            (1,82 МОм ±1%, 1/8 Вт, SMD 0805, RC0805FR-071M82L); Value: 1,82M; Part Number: RC0805FR-071M82L; Package: 0805; BOM1: 1.82 MOhm ±1% 1/8W 0805 SMD
footprint RESC_0805_2012N (Chip Resistor, Body 2.0x1.3mm, IPC Medium Density)
footprint RESC_0805_2012M (Chip Resistor, Body 2.0x1.3mm, IPC Low Density)
footprint RESC_0805_2012L (Chip Resistor, Body 2.0x1.3mm, IPC High Density)
pins: 1, 2

## RC0805FR-071M87L
designator R?, comment 1,87M
RC0805FR-071M87L 0805 1.87 MOhm ±1% 1/8W 0805 SMD -55C...+155C; Manufacturer: Yageo; BOM2: 1,87 МОм ±1%, 1/8 Вт, SMD 0805, RC0805FR-071M87L; ValueBOM: RC0805FR-071M87L   Yageo                            (1,87 МОм ±1%, 1/8 Вт, SMD 0805, RC0805FR-071M87L); Value: 1,87M; Part Number: RC0805FR-071M87L; Package: 0805; BOM1: 1.87 MOhm ±1% 1/8W 0805 SMD
footprint RESC_0805_2012N (Chip Resistor, Body 2.0x1.3mm, IPC Medium Density)
footprint RESC_0805_2012M (Chip Resistor, Body 2.0x1.3mm, IPC Low Density)
footprint RESC_0805_2012L (Chip Resistor, Body 2.0x1.3mm, IPC High Density)
pins: 1, 2

## RC0805FR-071M91L
designator R?, comment 1,91M
RC0805FR-071M91L 0805 1.91 MOhm ±1% 1/8W 0805 SMD -55C...+155C; Manufacturer: Yageo; BOM2: 1,91 МОм ±1%, 1/8 Вт, SMD 0805, RC0805FR-071M91L; ValueBOM: RC0805FR-071M91L   Yageo                            (1,91 МОм ±1%, 1/8 Вт, SMD 0805, RC0805FR-071M91L); Value: 1,91M; Part Number: RC0805FR-071M91L; Package: 0805; BOM1: 1.91 MOhm ±1% 1/8W 0805 SMD
footprint RESC_0805_2012N (Chip Resistor, Body 2.0x1.3mm, IPC Medium Density)
footprint RESC_0805_2012M (Chip Resistor, Body 2.0x1.3mm, IPC Low Density)
footprint RESC_0805_2012L (Chip Resistor, Body 2.0x1.3mm, IPC High Density)
pins: 1, 2

## RC0805FR-071M96L
designator R?, comment 1,96M
RC0805FR-071M96L 0805 1.96 MOhm ±1% 1/8W 0805 SMD -55C...+155C; Manufacturer: Yageo; BOM2: 1,96 МОм ±1%, 1/8 Вт, SMD 0805, RC0805FR-071M96L; ValueBOM: RC0805FR-071M96L   Yageo                            (1,96 МОм ±1%, 1/8 Вт, SMD 0805, RC0805FR-071M96L); Value: 1,96M; Part Number: RC0805FR-071M96L; Package: 0805; BOM1: 1.96 MOhm ±1% 1/8W 0805 SMD
footprint RESC_0805_2012N (Chip Resistor, Body 2.0x1.3mm, IPC Medium Density)
footprint RESC_0805_2012M (Chip Resistor, Body 2.0x1.3mm, IPC Low Density)
footprint RESC_0805_2012L (Chip Resistor, Body 2.0x1.3mm, IPC High Density)
pins: 1, 2

## RC0805FR-071ML
designator R?, comment 1M
RC0805FR-071ML 0805 1 MOhm ±1% 1/8W 0805 SMD -55C...+155C; Manufacturer: Yageo; BOM2: 1 MОм ±1%, 1/8 Вт, SMD 0805, RC0805FR-071ML; ValueBOM: RC0805FR-071ML   Yageo                            (1 MОм ±1%, 1/8 Вт, SMD 0805, RC0805FR-071ML); Value: 1M; Part Number: RC0805FR-071ML; Package: 0805; BOM1: 1 MOhm ±1% 1/8W 0805 SMD
footprint RESC_0805_2012N (Chip Resistor, Body 2.0x1.3mm, IPC Medium Density)
footprint RESC_0805_2012M (Chip Resistor, Body 2.0x1.3mm, IPC Low Density)
footprint RESC_0805_2012L (Chip Resistor, Body 2.0x1.3mm, IPC High Density)
pins: 1, 2

## RC0805FR-072K1L
designator R?, comment 2,1k
RC0805FR-072K1L 0805 2.1 kOhm ±1% 1/8W 0805 SMD -55C...+155C; Manufacturer: Yageo; BOM2: 2,1 кОм ±1%, 1/8 Вт, SMD 0805, RC0805FR-072K1L; ValueBOM: RC0805FR-072K1L   Yageo                            (2,1 кОм ±1%, 1/8 Вт, SMD 0805, RC0805FR-072K1L); Value: 2,1k; Part Number: RC0805FR-072K1L; Package: 0805; BOM1: 2.1 kOhm ±1% 1/8W 0805 SMD
footprint RESC_0805_2012N (Chip Resistor, Body 2.0x1.3mm, IPC Medium Density)
footprint RESC_0805_2012M (Chip Resistor, Body 2.0x1.3mm, IPC Low Density)
footprint RESC_0805_2012L (Chip Resistor, Body 2.0x1.3mm, IPC High Density)
pins: 1, 2

## RC0805FR-072K05L
designator R?, comment 2,05k
RC0805FR-072K05L 0805 2.05 kOhm ±1% 1/8W 0805 SMD -55C...+155C; Manufacturer: Yageo; BOM2: 2,05 кОм ±1%, 1/8 Вт, SMD 0805, RC0805FR-072K05L; ValueBOM: RC0805FR-072K05L   Yageo                            (2,05 кОм ±1%, 1/8 Вт, SMD 0805, RC0805FR-072K05L); Value: 2,05k; Part Number: RC0805FR-072K05L; Package: 0805; BOM1: 2.05 kOhm ±1% 1/8W 0805 SMD
footprint RESC_0805_2012N (Chip Resistor, Body 2.0x1.3mm, IPC Medium Density)
footprint RESC_0805_2012M (Chip Resistor, Body 2.0x1.3mm, IPC Low Density)
footprint RESC_0805_2012L (Chip Resistor, Body 2.0x1.3mm, IPC High Density)
pins: 1, 2

## RC0805FR-072K8L
designator R?, comment 2,8k
RC0805FR-072K8L 0805 2.8 kOhm ±1% 1/8W 0805 SMD -55C...+155C; Manufacturer: Yageo; BOM2: 2,8 кОм ±1%, 1/8 Вт, SMD 0805, RC0805FR-072K8L; ValueBOM: RC0805FR-072K8L   Yageo                            (2,8 кОм ±1%, 1/8 Вт, SMD 0805, RC0805FR-072K8L); Value: 2,8k; Part Number: RC0805FR-072K8L; Package: 0805; BOM1: 2.8 kOhm ±1% 1/8W 0805 SMD
footprint RESC_0805_2012N (Chip Resistor, Body 2.0x1.3mm, IPC Medium Density)
footprint RESC_0805_2012M (Chip Resistor, Body 2.0x1.3mm, IPC Low Density)
footprint RESC_0805_2012L (Chip Resistor, Body 2.0x1.3mm, IPC High Density)
pins: 1, 2

## RC0805FR-072K15L
designator R?, comment 2,15k
RC0805FR-072K15L 0805 2.15 kOhm ±1% 1/8W 0805 SMD -55C...+155C; Manufacturer: Yageo; BOM2: 2,15 кОм ±1%, 1/8 Вт, SMD 0805, RC0805FR-072K15L; ValueBOM: RC0805FR-072K15L   Yageo                            (2,15 кОм ±1%, 1/8 Вт, SMD 0805, RC0805FR-072K15L); Value: 2,15k; Part Number: RC0805FR-072K15L; Package: 0805; BOM1: 2.15 kOhm ±1% 1/8W 0805 SMD
footprint RESC_0805_2012N (Chip Resistor, Body 2.0x1.3mm, IPC Medium Density)
footprint RESC_0805_2012M (Chip Resistor, Body 2.0x1.3mm, IPC Low Density)
footprint RESC_0805_2012L (Chip Resistor, Body 2.0x1.3mm, IPC High Density)
pins: 1, 2

## RC0805FR-072K21L
designator R?, comment 2,21k
RC0805FR-072K21L 0805 2.21 kOhm ±1% 1/8W 0805 SMD -55C...+155C; Manufacturer: Yageo; BOM2: 2,21 кОм ±1%, 1/8 Вт, SMD 0805, RC0805FR-072K21L; ValueBOM: RC0805FR-072K21L   Yageo                            (2,21 кОм ±1%, 1/8 Вт, SMD 0805, RC0805FR-072K21L); Value: 2,21k; Part Number: RC0805FR-072K21L; Package: 0805; BOM1: 2.21 kOhm ±1% 1/8W 0805 SMD
footprint RESC_0805_2012N (Chip Resistor, Body 2.0x1.3mm, IPC Medium Density)
footprint RESC_0805_2012M (Chip Resistor, Body 2.0x1.3mm, IPC Low Density)
footprint RESC_0805_2012L (Chip Resistor, Body 2.0x1.3mm, IPC High Density)
pins: 1, 2

## RC0805FR-072K26L
designator R?, comment 2,26k
RC0805FR-072K26L 0805 2.26 kOhm ±1% 1/8W 0805 SMD -55C...+155C; Manufacturer: Yageo; BOM2: 2,26 кОм ±1%, 1/8 Вт, SMD 0805, RC0805FR-072K26L; ValueBOM: RC0805FR-072K26L   Yageo                            (2,26 кОм ±1%, 1/8 Вт, SMD 0805, RC0805FR-072K26L); Value: 2,26k; Part Number: RC0805FR-072K26L; Package: 0805; BOM1: 2.26 kOhm ±1% 1/8W 0805 SMD
footprint RESC_0805_2012N (Chip Resistor, Body 2.0x1.3mm, IPC Medium Density)
footprint RESC_0805_2012M (Chip Resistor, Body 2.0x1.3mm, IPC Low Density)
footprint RESC_0805_2012L (Chip Resistor, Body 2.0x1.3mm, IPC High Density)
pins: 1, 2

## RC0805FR-072K32L
designator R?, comment 2,32k
RC0805FR-072K32L 0805 2.32 kOhm ±1% 1/8W 0805 SMD -55C...+155C; Manufacturer: Yageo; BOM2: 2,32 кОм ±1%, 1/8 Вт, SMD 0805, RC0805FR-072K32L; ValueBOM: RC0805FR-072K32L   Yageo                            (2,32 кОм ±1%, 1/8 Вт, SMD 0805, RC0805FR-072K32L); Value: 2,32k; Part Number: RC0805FR-072K32L; Package: 0805; BOM1: 2.32 kOhm ±1% 1/8W 0805 SMD
footprint RESC_0805_2012N (Chip Resistor, Body 2.0x1.3mm, IPC Medium Density)
footprint RESC_0805_2012M (Chip Resistor, Body 2.0x1.3mm, IPC Low Density)
footprint RESC_0805_2012L (Chip Resistor, Body 2.0x1.3mm, IPC High Density)
pins: 1, 2

## RC0805FR-072K37L
designator R?, comment 2,37k
RC0805FR-072K37L 0805 2.37 kOhm ±1% 1/8W 0805 SMD -55C...+155C; Manufacturer: Yageo; BOM2: 2,37 кОм ±1%, 1/8 Вт, SMD 0805, RC0805FR-072K37L; ValueBOM: RC0805FR-072K37L   Yageo                            (2,37 кОм ±1%, 1/8 Вт, SMD 0805, RC0805FR-072K37L); Value: 2,37k; Part Number: RC0805FR-072K37L; Package: 0805; BOM1: 2.37 kOhm ±1% 1/8W 0805 SMD
footprint RESC_0805_2012N (Chip Resistor, Body 2.0x1.3mm, IPC Medium Density)
footprint RESC_0805_2012M (Chip Resistor, Body 2.0x1.3mm, IPC Low Density)
footprint RESC_0805_2012L (Chip Resistor, Body 2.0x1.3mm, IPC High Density)
pins: 1, 2

## RC0805FR-072K43L
designator R?, comment 2,43k
RC0805FR-072K43L 0805 2.43 kOhm ±1% 1/8W 0805 SMD -55C...+155C; Manufacturer: Yageo; BOM2: 2,43 кОм ±1%, 1/8 Вт, SMD 0805, RC0805FR-072K43L; ValueBOM: RC0805FR-072K43L   Yageo                            (2,43 кОм ±1%, 1/8 Вт, SMD 0805, RC0805FR-072K43L); Value: 2,43k; Part Number: RC0805FR-072K43L; Package: 0805; BOM1: 2.43 kOhm ±1% 1/8W 0805 SMD
footprint RESC_0805_2012N (Chip Resistor, Body 2.0x1.3mm, IPC Medium Density)
footprint RESC_0805_2012M (Chip Resistor, Body 2.0x1.3mm, IPC Low Density)
footprint RESC_0805_2012L (Chip Resistor, Body 2.0x1.3mm, IPC High Density)
pins: 1, 2

## RC0805FR-072K49L
designator R?, comment 2,49k
RC0805FR-072K49L 0805 2.49 kOhm ±1% 1/8W 0805 SMD -55C...+155C; Manufacturer: Yageo; BOM2: 2,49 кОм ±1%, 1/8 Вт, SMD 0805, RC0805FR-072K49L; ValueBOM: RC0805FR-072K49L   Yageo                            (2,49 кОм ±1%, 1/8 Вт, SMD 0805, RC0805FR-072K49L); Value: 2,49k; Part Number: RC0805FR-072K49L; Package: 0805; BOM1: 2.49 kOhm ±1% 1/8W 0805 SMD
footprint RESC_0805_2012N (Chip Resistor, Body 2.0x1.3mm, IPC Medium Density)
footprint RESC_0805_2012M (Chip Resistor, Body 2.0x1.3mm, IPC Low Density)
footprint RESC_0805_2012L (Chip Resistor, Body 2.0x1.3mm, IPC High Density)
pins: 1, 2

## RC0805FR-072K55L
designator R?, comment 2,55k
RC0805FR-072K55L 0805 2.55 kOhm ±1% 1/8W 0805 SMD -55C...+155C; Manufacturer: Yageo; BOM2: 2,55 кОм ±1%, 1/8 Вт, SMD 0805, RC0805FR-072K55L; ValueBOM: RC0805FR-072K55L   Yageo                            (2,55 кОм ±1%, 1/8 Вт, SMD 0805, RC0805FR-072K55L); Value: 2,55k; Part Number: RC0805FR-072K55L; Package: 0805; BOM1: 2.55 kOhm ±1% 1/8W 0805 SMD
footprint RESC_0805_2012N (Chip Resistor, Body 2.0x1.3mm, IPC Medium Density)
footprint RESC_0805_2012M (Chip Resistor, Body 2.0x1.3mm, IPC Low Density)
footprint RESC_0805_2012L (Chip Resistor, Body 2.0x1.3mm, IPC High Density)
pins: 1, 2

## RC0805FR-072K61L
designator R?, comment 2,61k
RC0805FR-072K61L 0805 2.61 kOhm ±1% 1/8W 0805 SMD -55C...+155C; Manufacturer: Yageo; BOM2: 2,61 кОм ±1%, 1/8 Вт, SMD 0805, RC0805FR-072K61L; ValueBOM: RC0805FR-072K61L   Yageo                            (2,61 кОм ±1%, 1/8 Вт, SMD 0805, RC0805FR-072K61L); Value: 2,61k; Part Number: RC0805FR-072K61L; Package: 0805; BOM1: 2.61 kOhm ±1% 1/8W 0805 SMD
footprint RESC_0805_2012N (Chip Resistor, Body 2.0x1.3mm, IPC Medium Density)
footprint RESC_0805_2012M (Chip Resistor, Body 2.0x1.3mm, IPC Low Density)
footprint RESC_0805_2012L (Chip Resistor, Body 2.0x1.3mm, IPC High Density)
pins: 1, 2

## RC0805FR-072K67L
designator R?, comment 2,67k
RC0805FR-072K67L 0805 2.67 kOhm ±1% 1/8W 0805 SMD -55C...+155C; Manufacturer: Yageo; BOM2: 2,67 кОм ±1%, 1/8 Вт, SMD 0805, RC0805FR-072K67L; ValueBOM: RC0805FR-072K67L   Yageo                            (2,67 кОм ±1%, 1/8 Вт, SMD 0805, RC0805FR-072K67L); Value: 2,67k; Part Number: RC0805FR-072K67L; Package: 0805; BOM1: 2.67 kOhm ±1% 1/8W 0805 SMD
footprint RESC_0805_2012N (Chip Resistor, Body 2.0x1.3mm, IPC Medium Density)
footprint RESC_0805_2012M (Chip Resistor, Body 2.0x1.3mm, IPC Low Density)
footprint RESC_0805_2012L (Chip Resistor, Body 2.0x1.3mm, IPC High Density)
pins: 1, 2

## RC0805FR-072K74L
designator R?, comment 2,74k
RC0805FR-072K74L 0805 2.74 kOhm ±1% 1/8W 0805 SMD -55C...+155C; Manufacturer: Yageo; BOM2: 2,74 кОм ±1%, 1/8 Вт, SMD 0805, RC0805FR-072K74L; ValueBOM: RC0805FR-072K74L   Yageo                            (2,74 кОм ±1%, 1/8 Вт, SMD 0805, RC0805FR-072K74L); Value: 2,74k; Part Number: RC0805FR-072K74L; Package: 0805; BOM1: 2.74 kOhm ±1% 1/8W 0805 SMD
footprint RESC_0805_2012N (Chip Resistor, Body 2.0x1.3mm, IPC Medium Density)
footprint RESC_0805_2012M (Chip Resistor, Body 2.0x1.3mm, IPC Low Density)
footprint RESC_0805_2012L (Chip Resistor, Body 2.0x1.3mm, IPC High Density)
pins: 1, 2

## RC0805FR-072K87L
designator R?, comment 2,87k
RC0805FR-072K87L 0805 2.87 kOhm ±1% 1/8W 0805 SMD -55C...+155C; Manufacturer: Yageo; BOM2: 2,87 кОм ±1%, 1/8 Вт, SMD 0805, RC0805FR-072K87L; ValueBOM: RC0805FR-072K87L   Yageo                            (2,87 кОм ±1%, 1/8 Вт, SMD 0805, RC0805FR-072K87L); Value: 2,87k; Part Number: RC0805FR-072K87L; Package: 0805; BOM1: 2.87 kOhm ±1% 1/8W 0805 SMD
footprint RESC_0805_2012N (Chip Resistor, Body 2.0x1.3mm, IPC Medium Density)
footprint RESC_0805_2012M (Chip Resistor, Body 2.0x1.3mm, IPC Low Density)
footprint RESC_0805_2012L (Chip Resistor, Body 2.0x1.3mm, IPC High Density)
pins: 1, 2

## RC0805FR-072K94L
designator R?, comment 2,94k
RC0805FR-072K94L 0805 2.94 kOhm ±1% 1/8W 0805 SMD -55C...+155C; Manufacturer: Yageo; BOM2: 2,94 кОм ±1%, 1/8 Вт, SMD 0805, RC0805FR-072K94L; ValueBOM: RC0805FR-072K94L   Yageo                            (2,94 кОм ±1%, 1/8 Вт, SMD 0805, RC0805FR-072K94L); Value: 2,94k; Part Number: RC0805FR-072K94L; Package: 0805; BOM1: 2.94 kOhm ±1% 1/8W 0805 SMD
footprint RESC_0805_2012N (Chip Resistor, Body 2.0x1.3mm, IPC Medium Density)
footprint RESC_0805_2012M (Chip Resistor, Body 2.0x1.3mm, IPC Low Density)
footprint RESC_0805_2012L (Chip Resistor, Body 2.0x1.3mm, IPC High Density)
pins: 1, 2

## RC0805FR-072KL
designator R?, comment 2k
RC0805FR-072KL 0805 2 kOhm ±1% 1/8W 0805 SMD -55C...+155C; Manufacturer: Yageo; BOM2: 2 кОм ±1%, 1/8 Вт, SMD 0805, RC0805FR-072KL; ValueBOM: RC0805FR-072KL   Yageo                            (2 кОм ±1%, 1/8 Вт, SMD 0805, RC0805FR-072KL); Value: 2k; Part Number: RC0805FR-072KL; Package: 0805; BOM1: 2 kOhm ±1% 1/8W 0805 SMD
footprint RESC_0805_2012N (Chip Resistor, Body 2.0x1.3mm, IPC Medium Density)
footprint RESC_0805_2012M (Chip Resistor, Body 2.0x1.3mm, IPC Low Density)
footprint RESC_0805_2012L (Chip Resistor, Body 2.0x1.3mm, IPC High Density)
pins: 1, 2

## RC0805FR-072M1L
designator R?, comment 2,1M
RC0805FR-072M1L 0805 2.1 MOhm ±1% 1/8W 0805 SMD -55C...+155C; Manufacturer: Yageo; BOM2: 2,1 МОм ±1%, 1/8 Вт, SMD 0805, RC0805FR-072M1L; ValueBOM: RC0805FR-072M1L   Yageo                            (2,1 МОм ±1%, 1/8 Вт, SMD 0805, RC0805FR-072M1L); Value: 2,1M; Part Number: RC0805FR-072M1L; Package: 0805; BOM1: 2.1 MOhm ±1% 1/8W 0805 SMD
footprint RESC_0805_2012N (Chip Resistor, Body 2.0x1.3mm, IPC Medium Density)
footprint RESC_0805_2012M (Chip Resistor, Body 2.0x1.3mm, IPC Low Density)
footprint RESC_0805_2012L (Chip Resistor, Body 2.0x1.3mm, IPC High Density)
pins: 1, 2

## RC0805FR-072M05L
designator R?, comment 2,05M
RC0805FR-072M05L 0805 2.05 MOhm ±1% 1/8W 0805 SMD -55C...+155C; Manufacturer: Yageo; BOM2: 2,05 МОм ±1%, 1/8 Вт, SMD 0805, RC0805FR-072M05L; ValueBOM: RC0805FR-072M05L   Yageo                            (2,05 МОм ±1%, 1/8 Вт, SMD 0805, RC0805FR-072M05L); Value: 2,05M; Part Number: RC0805FR-072M05L; Package: 0805; BOM1: 2.05 MOhm ±1% 1/8W 0805 SMD
footprint RESC_0805_2012N (Chip Resistor, Body 2.0x1.3mm, IPC Medium Density)
footprint RESC_0805_2012M (Chip Resistor, Body 2.0x1.3mm, IPC Low Density)
footprint RESC_0805_2012L (Chip Resistor, Body 2.0x1.3mm, IPC High Density)
pins: 1, 2

## RC0805FR-072M8L
designator R?, comment 2,8M
RC0805FR-072M8L 0805 2.8 MOhm ±1% 1/8W 0805 SMD -55C...+155C; Manufacturer: Yageo; BOM2: 2,8 МОм ±1%, 1/8 Вт, SMD 0805, RC0805FR-072M8L; ValueBOM: RC0805FR-072M8L   Yageo                            (2,8 МОм ±1%, 1/8 Вт, SMD 0805, RC0805FR-072M8L); Value: 2,8M; Part Number: RC0805FR-072M8L; Package: 0805; BOM1: 2.8 MOhm ±1% 1/8W 0805 SMD
footprint RESC_0805_2012N (Chip Resistor, Body 2.0x1.3mm, IPC Medium Density)
footprint RESC_0805_2012M (Chip Resistor, Body 2.0x1.3mm, IPC Low Density)
footprint RESC_0805_2012L (Chip Resistor, Body 2.0x1.3mm, IPC High Density)
pins: 1, 2